# EAGLE library part 1X12 (library Pinhead)
Ph12
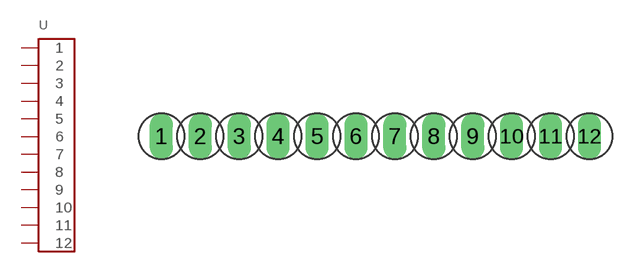
[diagram p6: symbol with the pads of 1X12; footprint 1X12]

Designator prefix -

## 1X12  [1X12]
1  1
2  2
3  3
4  4
5  5
6  6
7  7
8  8
9  9
10  10
11  11
12  12

## Footprint 1X12 (pad centres in mm)
Ph12
drill 1 pad 1.5 long: 1 -13.97,0; 2 -11.43,0; 3 -8.89,0; 4 -6.35,0; 5 -3.81,0; 6 -1.27,0; 7 1.27,0; 8 3.81,0; 9 6.35,0; 10 8.89,0; 11 11.43,0; 12 13.97,0